# EAGLE library part MCP4451 (library CharlieCreations)
8Bit Quad Digital Pot, I2C interface, 256 steps, 10kOhm
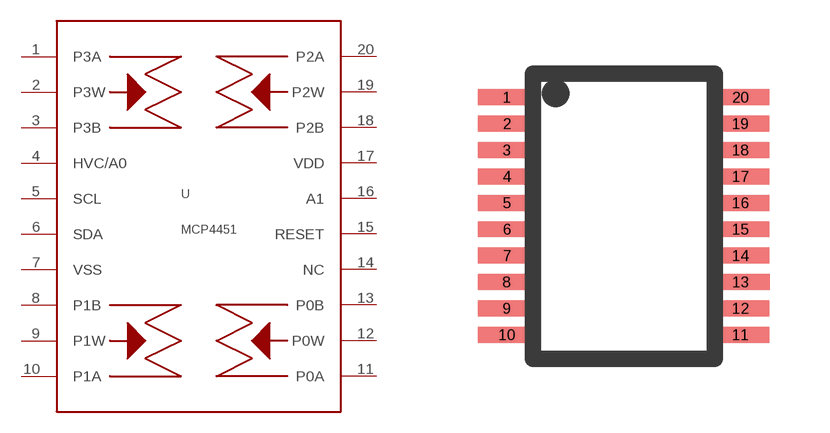
[diagram p7: symbol with the pads of TSSOP20; footprint TSSOP20]

Designator prefix U

## MCP44511  [TSSOP20]
1  P3A
2  P3W
3  P3B
4  HVC/A0
5  SCL
6  SDA
7  VSS  pwr
8  P1B
9  P1W
10  P1A
11  P0A
12  P0W
13  P0B
14  NC  nc
15  RESET
16  A1
17  VDD  pwr
18  P2B
19  P2W
20  P2A

## Footprint TSSOP20 (pad centres in mm)
smd 1.45 x 0.399: 1 -2.937,2.693; 2 -2.937,2.032; 3 -2.937,1.372; 4 -2.937,0.712; 5 -2.937,0.051; 6 -2.937,-0.609; 7 -2.937,-1.27; 8 -2.943,-1.93; 9 -2.937,-2.59; 10 -2.937,-3.251; 11 2.905,-3.251; 12 2.905,-2.59; 13 2.911,-1.93; 14 2.905,-1.27; 15 2.905,-0.609; 16 2.905,0.051; 17 2.905,0.712; 18 2.905,1.372; 19 2.905,2.032; 20 2.905,2.693